# Altium schematic symbol library 1487UD1.Schlib: 1 symbol
Pins are listed as number, name and electrical type; pins without a type are passive.

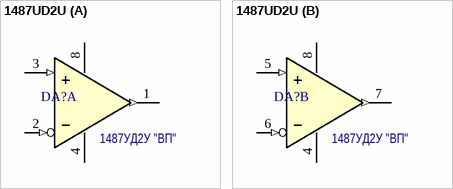
[diagram p0: symbol 1487UD2U]

## 1487UD2U
designator DA?  Наименование: 1487УД2У "ВП"  (hidden comment: 1487UD2U)
Сдвоенный операционный усилитель; Потребление, Вт: 0,01; Назначение: Сдвоенный операционный усилитель
footprint HO2.8-1B
part A pins: 1 Out (out), 2 In- (in), 3 In+ (in), 4 Vss-, 8 Vss+
part B pins: 4 Vss-, 5 In+ (in), 6 In- (in), 7 Out (out), 8 Vss+